# EAGLE library part HLE-115-02-L-DV (library HLE-115-02-L-DV)
Check availability <https://pricing.snapeda.com/parts/HLE-115-02-L-DV/Samtec%20Inc./view-part?ref=eda>
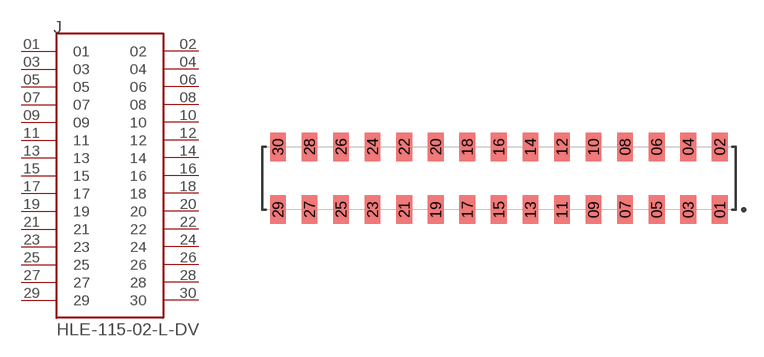
[diagram p0: symbol with the pads of SAMTEC_HLE-115-02-L-DV; footprint SAMTEC_HLE-115-02-L-DV]

Designator prefix J

## HLE-115-02-L-DV (Availability: In Stock; Description: 30 Position Receptacle, Pass Through Connector 0.100 (2.54mm) Through Hole Gold; MF: Samtec Inc.; MP: HLE-115-02-L-DV; Package: None; Price: None; Purchase-URL: https://pricing.snapeda.com/search/part/HLE-115-02-L-DV/?ref=eda)  [SAMTEC_HLE-115-02-L-DV]
01  01  pas
02  02  pas
03  03  pas
04  04  pas
05  05  pas
06  06  pas
07  07  pas
08  08  pas
09  09  pas
10  10  pas
11  11  pas
12  12  pas
13  13  pas
14  14  pas
15  15  pas
16  16  pas
17  17  pas
18  18  pas
19  19  pas
20  20  pas
21  21  pas
22  22  pas
23  23  pas
24  24  pas
25  25  pas
26  26  pas
27  27  pas
28  28  pas
29  29  pas
30  30  pas

## Footprint SAMTEC_HLE-115-02-L-DV (pad centres in mm)
smd 1.27 x 2.29: 01 17.78,-2.525; 02 17.78,2.525; 03 15.24,-2.525; 04 15.24,2.525; 05 12.7,-2.525; 06 12.7,2.525; 07 10.16,-2.525; 08 10.16,2.525; 09 7.62,-2.525; 10 7.62,2.525; 11 5.08,-2.525; 12 5.08,2.525; 13 2.54,-2.525; 14 2.54,2.525; 15 0,-2.525; 16 0,2.525; 17 -2.54,-2.525; 18 -2.54,2.525; 19 -5.08,-2.525; 20 -5.08,2.525; 21 -7.62,-2.525; 22 -7.62,2.525; 23 -10.16,-2.525; 24 -10.16,2.525; 25 -12.7,-2.525; 26 -12.7,2.525; 27 -15.24,-2.525; 28 -15.24,2.525; 29 -17.78,-2.525; 30 -17.78,2.525